# EAGLE library part TPS621XX (library piccoli)
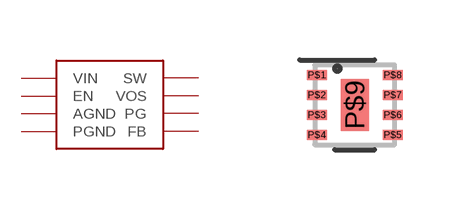
[diagram p21: symbol with the pads of 8-WFDFN; footprint 8-WFDFN]

Designator prefix U

## TPS621XX  [8-WFDFN]
P$1  PGND  pwr
P$2  VIN  pwr
P$3  EN  in
P$4  AGND  pwr
P$5  FB  in
P$6  VOS
P$7  SW
P$8  PG  out
P$9  AGND  pwr

## Footprint 8-WFDFN (pad centres in mm)
smd 0.5 x 0.25: P$1 -0.95,0.75; P$2 -0.95,0.25; P$3 -0.95,-0.25; P$4 -0.95,-0.75; P$5 0.95,-0.75; P$6 0.95,-0.25; P$7 0.95,0.25; P$8 0.95,0.75
smd 0.7 x 1.3: P$9 0,0